# Altium footprint library a3.PcbLib: 56 footprints (part 3 of 4)
Each footprint in its own frame and in the unit in brackets; x right, y up, seen from the top. Pads: shape width x height; smd on the part's side, far side on the other; paste and mask are expansions set on the pad; w line width, h text height; cw(c..) or ccw(c..) is an arc to the next point about the centre after c.
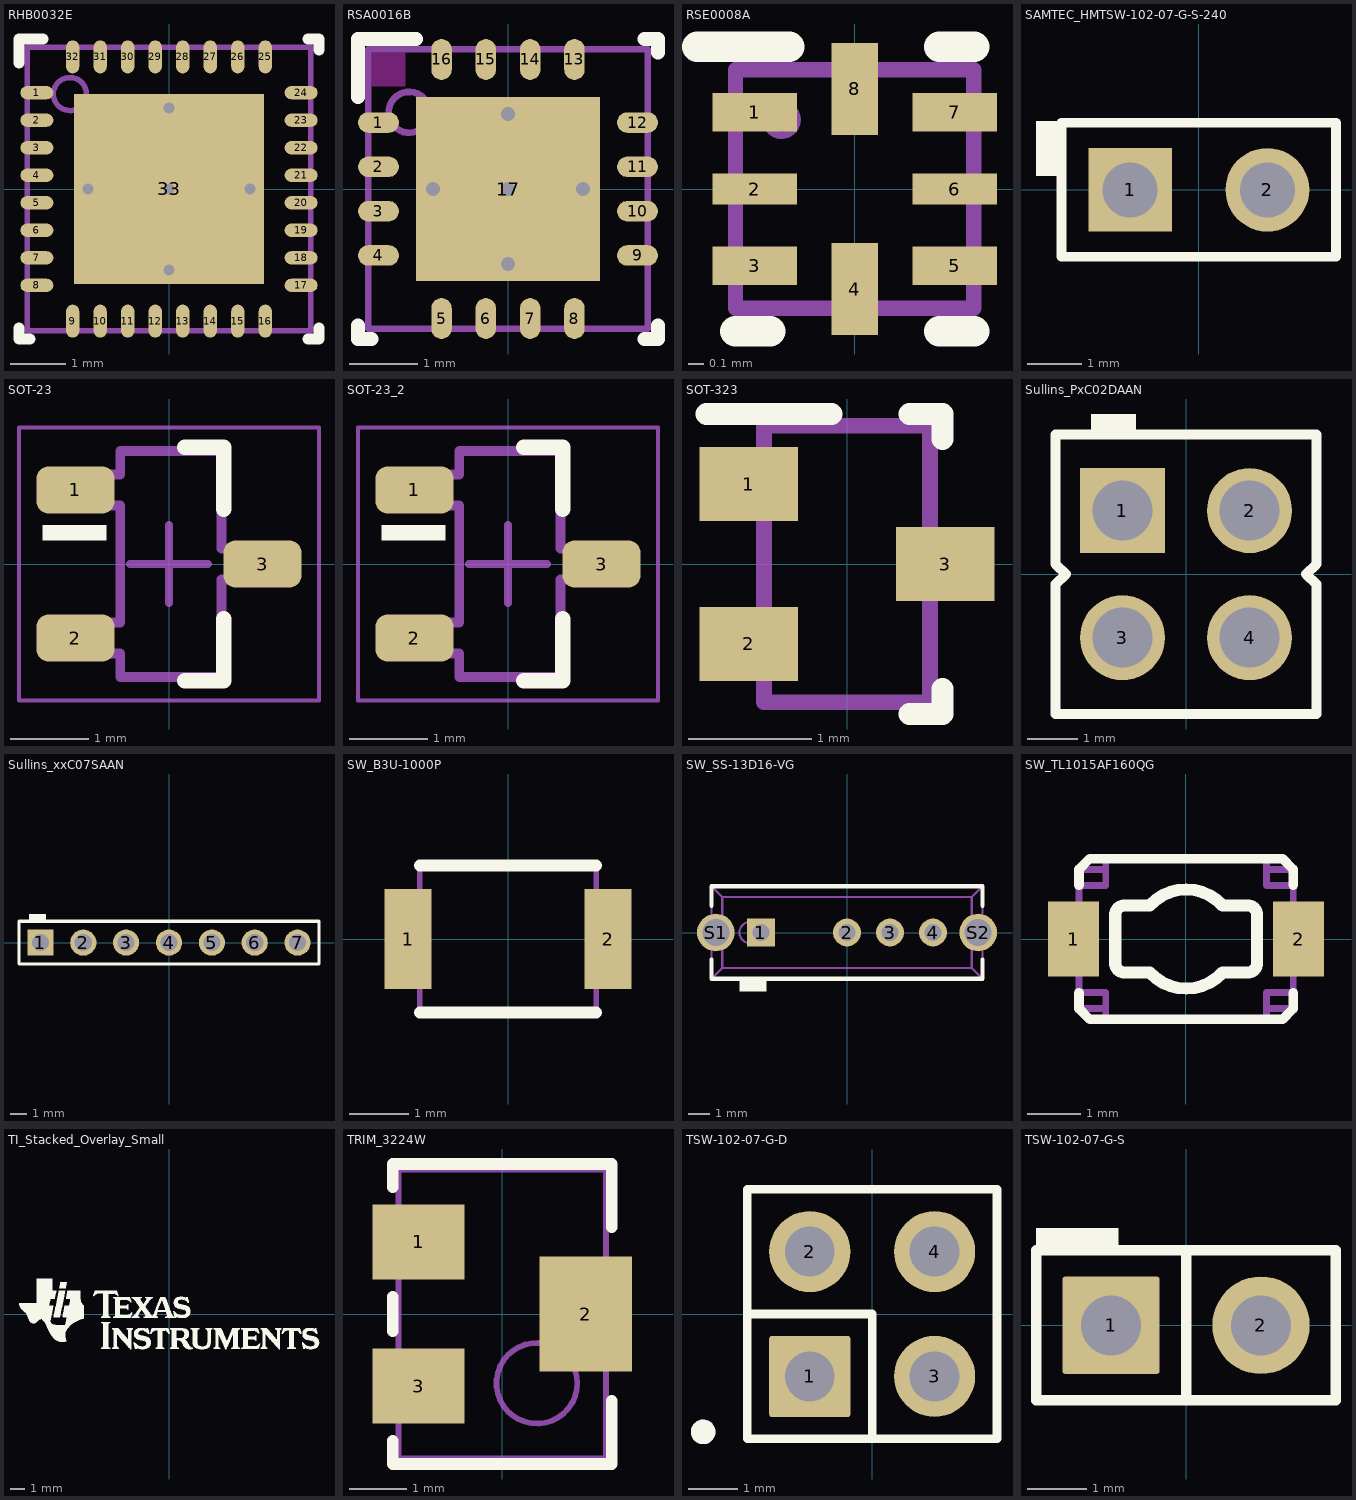
[diagram p2: the footprints below, top view; thin cyan lines are the x and y axes]

## RHB0032E [mm] "QFN, 32-Leads, Body 5x5mm, Pitch 0.5mm, Thermal Pad 3.45x3.45mm, TI Recommended"
height 1
pads (33):
  oval 0.6x0.24 smd: 1(-2.4,1.75) 2(-2.4,1.25) 3(-2.4,0.75) 4(-2.4,0.25) 5(-2.4,-0.25) 6(-2.4,-0.75) 7(-2.4,-1.25) 8(-2.4,-1.75) 17(2.4,-1.75) 18(2.4,-1.25) 19(2.4,-0.75) 20(2.4,-0.25) 21(2.4,0.25) 22(2.4,0.75) 23(2.4,1.25) 24(2.4,1.75)
  oval 0.24x0.6 smd: 9(-1.75,-2.4) 10(-1.25,-2.4) 11(-0.75,-2.4) 12(-0.25,-2.4) 13(0.25,-2.4) 14(0.75,-2.4) 15(1.25,-2.4) 16(1.75,-2.4) 25(1.75,2.4) 26(1.25,2.4) 27(0.75,2.4) 28(0.25,2.4) 29(-0.25,2.4) 30(-0.75,2.4) 31(-1.25,2.4) 32(-1.75,2.4)
  rect 3.45x3.45 smd paste-1.725: 33(0,0)
via 0,-1.475 diameter 0.5 hole 0.2
via 1.475,0 diameter 0.5 hole 0.2
via 0,0 diameter 0.5 hole 0.2
via -1.475,0 diameter 0.5 hole 0.2
via 0,1.475 diameter 0.5 hole 0.2
Top Overlay:
  lines w0.2: -2.725,-2.525 -2.725,-2.725 -2.525,-2.725 ; -2.725,2.29 -2.725,2.725 -2.29,2.725 ; 2.525,-2.725 2.725,-2.725 2.725,-2.525 ; 2.525,2.725 2.725,2.725 2.725,2.525
Top Paste:
  rectangle: 0.1,0.1 1.586,1.586
  region: -0.1,1.586 -1.586,1.586 -1.586,0.1 -0.1,0.1
  region: -0.1,-0.1 -1.586,-0.1 -1.586,-1.586 -0.1,-1.586
  rectangle: 0.1,-1.586 1.586,-0.1
Mechanical 5:
  circle w0.1: c-1.8,1.725 r0.3
  lines w0.1: -2.575,-2.575 2.575,-2.575 2.575,2.575 -2.575,2.575 -2.575,-2.575
  text ".Designator" at 0.635,0.381 h0.64
3D body: height 1, standoff 0, extent -2.575,-2.575 2.575,2.575
3D body: height 1.01, standoff 0.5, extent -2.099,1.426 -1.501,2.024

## RSA0016B [mm] "QFN, 16-Leads, Body 4x4mm, Pitch 0.65mm, Thermal Pad 2.7x2.7mm, TI Recommended"
height 1
pads (17):
  oval 0.6x0.3 smd: 1(-1.9,0.975) 2(-1.9,0.325) 3(-1.9,-0.325) 4(-1.9,-0.975) 9(1.9,-0.975) 10(1.9,-0.325) 11(1.9,0.325) 12(1.9,0.975)
  oval 0.3x0.6 smd: 5(-0.975,-1.9) 6(-0.325,-1.9) 7(0.325,-1.9) 8(0.975,-1.9) 13(0.975,1.9) 14(0.325,1.9) 15(-0.325,1.9) 16(-0.975,1.9)
  rect 2.7x2.7 smd paste-1.35: 17(0,0)
via 0,-1.1 diameter 0.5 hole 0.2
via 1.1,0 diameter 0.5 hole 0.2
via 0,0 diameter 0.5 hole 0.2
via -1.1,0 diameter 0.5 hole 0.2
via 0,1.1 diameter 0.5 hole 0.2
Top Layer keep-out:
  rectangle: -2,1.5 -1.5,2
Top Overlay:
  lines w0.2: -2.2,-2 -2.2,-2.2 -2,-2.2 ; -2.2,1.35 -2.2,2.2 -1.35,2.2 ; 2,-2.2 2.2,-2.2 2.2,-2 ; 2,2.2 2.2,2.2 2.2,2
Top Paste:
  rectangle: 0.1,0.1 1.288,1.288
  region: -0.1,1.288 -1.288,1.288 -1.288,0.1 -0.1,0.1
  region: -0.1,-0.1 -1.288,-0.1 -1.288,-1.288 -0.1,-1.288
  rectangle: 0.1,-1.288 1.288,-0.1
Mechanical 5:
  circle w0.1: c-1.45,1.125 r0.3
  lines w0.1: -2.05,-2.05 2.05,-2.05 2.05,2.05 -2.05,2.05 -2.05,-2.05
  text ".Designator" at -1.854,-0.508 h1.02
3D body: height 1, standoff 0, extent -2.05,-2.05 2.05,2.05
3D body: height 1.01, standoff 0.9, extent -1.749,0.826 -1.151,1.424

## RSE0008A [mm] "QFN, 8-Leads, Body 1.5x1.5mm, Pitch 0.5mm, TI Recommended"
height 0.6
pads (8):
  rect 0.55x0.25 smd: 1(-0.65,0.5) 3(-0.65,-0.5) 5(0.65,-0.5) 7(0.65,0.5)
  rect 0.55x0.2 smd: 2(-0.65,0) 6(0.65,0)
  rect 0.3x0.6 smd: 4(0,-0.65) 8(0,0.65)
Top Overlay:
  lines w0.2: -1.025,0.925 -0.425,0.925 ; -0.775,-0.925 -0.55,-0.925 ; 0.55,-0.925 0.775,-0.925 ; 0.55,0.925 0.775,0.925
Mechanical 5:
  circle w0.05: c-0.475,0.45 r0.1
  lines w0.1: -0.775,-0.775 -0.775,0.775 0.775,0.775 0.775,-0.775 -0.775,-0.775
  text ".Designator" at -0.597,-0.254 h0.38
3D body: height 0.6, standoff 0, extent -0.775,-0.775 0.775,0.775
3D body: height 0.61, standoff 0.5, extent -0.574,0.351 -0.376,0.549

## SAMTEC_HMTSW-102-07-G-S-240 [mm] "Header, 2.54mm, 2x1, TH"
height 8.58
pads (2):
  rect 1.55x1.55 hole 1.02: 1(-1.27,0)
  round 1.55 hole 1.02: 2(1.27,0)
Top Overlay:
  region: -2.54,1.27 -3.012,1.27 -3.012,0.254 -2.54,0.254
  lines w0.178: -2.54,-1.24 -2.54,1.24 2.54,1.24 2.54,-1.24 -2.54,-1.24
Mechanical 5:
  lines w0.127: -2.54,-1.24 -2.54,1.24 2.54,1.24 2.54,-1.24 -2.54,-1.24
  text ".Designator" at -1.524,-0.508 h1.02
3D body "Samtec-HMTSW-102-07-G-S-240.stp": height 8.64, standoff -2.29, extent -2.54,-1.27 2.54,1.27

## SOT-23 [mm] "SOT23, 3-Leads, Body 2.9x1.3mm, Pitch 0.95mm, Lead Span 2.5mm, IPC Medium Density"
height 1.1
pads (3):
  rrect50% 1x0.6 smd: 1(-1.2,0.95) 2(-1.2,-0.95) 3(1.2,0)
Top Overlay:
  rectangle: -1.625,0.3 -0.8,0.5
  lines w0.2: 0.2,-1.5 0.7,-1.5 0.7,-0.7 ; 0.2,1.5 0.7,1.5 0.7,0.7
Mechanical 5:
  lines w0.127: -1.16,-1.15 -0.625,-1.15 -0.625,-1.45 0.675,-1.45 0.675,-0.2 1.21,-0.2 1.21,0.2 0.675,0.2 0.675,1.45 -0.625,1.45 -0.625,1.15 -1.16,1.15 -1.16,0.75 -0.625,0.75 -0.625,-0.75 -1.16,-0.75 -1.16,-1.15
  text ".Designator" at 0.292,-0.508 h0.38
Mechanical 15:
  lines w0.05: -1.925,-1.75 -1.925,1.75 1.925,1.75 1.925,-1.75 -1.925,-1.75
  lines w0.1: -0.5,0 0.5,0 ; 0,-0.5 0,0.5
3D body "SW3dPS-sot-3p290x130ll237h100.STEP": height 1, standoff 0, extent -1.16,-1.45 1.21,1.45

## SOT-23_2 [mm]
pads (3):
  rrect50% 1x0.6 smd: 1(-1.2,0.95) 2(-1.2,-0.95) 3(1.2,0)
Top Overlay:
  rectangle: -1.625,0.3 -0.8,0.5
  lines w0.2: 0.2,-1.5 0.7,-1.5 0.7,-0.7 ; 0.2,1.5 0.7,1.5 0.7,0.7
Mechanical 5:
  lines w0.127: -1.16,-1.15 -0.625,-1.15 -0.625,-1.45 0.675,-1.45 0.675,-0.2 1.21,-0.2 1.21,0.2 0.675,0.2 0.675,1.45 -0.625,1.45 -0.625,1.15 -1.16,1.15 -1.16,0.75 -0.625,0.75 -0.625,-0.75 -1.16,-0.75 -1.16,-1.15
  text ".Designator" at 0.254,-0.978 h0.64
Mechanical 15:
  lines w0.05: -1.925,-1.75 -1.925,1.75 1.925,1.75 1.925,-1.75 -1.925,-1.75
  lines w0.1: -0.5,0 0.5,0 ; 0,-0.5 0,0.5
3D body "SW3dPS-sot-3p290x130ll237h100.STEP": height 1, standoff 0, extent -1.16,-1.45 1.21,1.45

## SOT-323 [mm] "Zetex recommended land pattern.  March 2007"
height 1.1
pads (3):
  rect 0.8x0.6 smd: 1(-0.8,0.65) 2(-0.8,-0.65) 3(0.8,0)
Top Overlay:
  lines w0.178: -1.143,1.219 -0.127,1.219 ; 0.508,-1.219 0.775,-1.219 0.775,-1.016 ; 0.508,1.219 0.775,1.219 0.775,1.016
Mechanical 5:
  lines w0.127: -1.125,-0.8 -0.975,-0.8 -0.935,-0.8 -0.884,-0.8 -0.725,-0.8 -0.675,-0.8 -0.675,-0.5 -0.725,-0.5 -0.884,-0.5 -0.935,-0.5 -0.975,-0.5 -1.125,-0.5 -1.125,-0.8 ; -1.125,0.5 -0.975,0.5 -0.935,0.5 -0.884,0.5 -0.725,0.5 -0.675,0.5 -0.675,0.8 -0.725,0.8 -0.884,0.8 -0.935,0.8 -0.975,0.8 -1.125,0.8 -1.125,0.5 ; -0.675,-1.125 0.675,-1.125 0.675,1.125 -0.675,1.125 -0.675,-1.125 ; 0.675,-0.15 0.675,0.15 0.725,0.15 0.884,0.15 0.935,0.15 0.975,0.15 1.125,0.15 1.125,-0.15 0.975,-0.15 0.935,-0.15 0.884,-0.15 0.725,-0.15 0.675,-0.15
  text ".Designator" at 0.165,-0.508 h0.38
3D body "SC-70.stp": height 1.13, standoff 0.02, extent -1.125,-1.125 1.125,1.125

## Sullins_PxC02DAAN [mm] "Header, 2.54mm, 2x2, TH"
height 8.58
pads (4):
  rect 1.7x1.7 hole 1.2: 1(-1.27,1.27)
  round 1.7 hole 1.2: 2(1.27,1.27) 3(-1.27,-1.27) 4(1.27,-1.27)
Top Overlay:
  rectangle: -1.9,2.795 -1,3.2
  lines w0.2: -2.605,-2.795 2.605,-2.795 2.605,-0.2 2.4,0 2.605,0.2 2.605,2.795 -2.605,2.795 -2.605,0.2 -2.4,0 -2.605,-0.2 -2.605,-2.795
Mechanical 5:
  lines w0.1: -2.605,-2.795 -2.605,-0.2 -2.4,0 -2.605,0.2 -2.605,2.795 2.605,2.795 2.605,0.2 2.4,0 2.605,-0.2 2.605,-2.795 -2.605,-2.795
  text ".Designator" at -1.524,-0.508 h1.02
3D body: height 8.58, standoff -2.5, extent -1.59,-1.59 -0.95,-0.95
3D body: height 8.58, standoff -2.5, extent 0.95,-1.59 1.59,-0.95
3D body: height 8.58, standoff -2.5, extent 0.95,0.95 1.59,1.59
3D body: height 8.58, standoff -2.5, extent -1.59,0.95 -0.95,1.59
3D body: height 2.54, standoff 0, extent -2.606,-2.796 2.606,2.796

## Sullins_xxC07SAAN [mm] "Header, 2.54 mm, 7x1, TH"
height 8.71
pads (7):
  rect 1.55x1.55 hole 1.016: 1(-7.62,0)
  round 1.55 hole 1.016: 2(-5.08,0) 3(-2.54,0) 4(0,0) 5(2.54,0) 6(5.08,0) 7(7.62,0)
Top Overlay:
  rectangle: -8.3,1.27 -7.3,1.7
  lines w0.2: -8.89,-1.27 -8.89,1.27 8.89,1.27 8.89,-1.27 -8.89,-1.27
Mechanical 5:
  lines w0.1: -8.89,-1.27 8.89,-1.27 8.89,1.27 -8.89,1.27 -8.89,-1.27
  text ".Designator" at -1.524,-0.508 h1.02
3D body "PBC07SAAN.stp": height 8.38, standoff -3.05, extent -8.89,-1.27 8.89,1.27

## SW_B3U-1000P [mm] "OMRON"
height 1.75
pads (2):
  rect 0.8x1.7 smd: 1(-1.7,0) 2(1.7,0)
Top Overlay:
  lines w0.2: -1.5,-1.25 1.5,-1.25 ; -1.5,1.25 1.5,1.25
Mechanical 5:
  lines w0.1: -1.5,-0.7 -2,-0.7 -2,0.7 -1.5,0.7 ; 1.5,-0.7 2,-0.7 2,0.7 1.5,0.7 ; -1.5,-1.25 1.5,-1.25 1.5,1.25 -1.5,1.25 -1.5,-1.25
  text ".Designator" at 2.921,2.413 h0.64
3D body: height 1.35, standoff 0, extent -1.5,-1.25 1.5,1.25
3D body: height 1.75, standoff 0.01, extent -0.749,-0.749 0.749,0.749

## SW_SS-13D16-VG [mm] "TH, 4-Leads, Body 12.6x4.3mm, Pitch 2mm"
height 9.3
pads (6):
  rect 1.3x1.3 hole 0.8: 1(-4,0)
  round 1.3 hole 0.8: 2(0,0) 3(2,0) 4(4,0)
  round 1.75 hole 1.25: S1(-6.1,0) S2(6.1,0)
Top Overlay:
  rectangle: -5,-2.75 -3.75,-2.15
  lines w0.2: -6.3,-1.25 -6.3,-2.15 6.3,-2.15 6.3,-1.25 ; -6.3,1.25 -6.3,2.15 6.3,2.15 6.3,1.25
Mechanical 5:
  circle w0.1: c-4.5,0 r0.5
  lines w0.1: -6.3,-2.15 6.3,-2.15 ; -6.3,-2.15 -6.3,2.15 ; -6.3,-2.15 -5.8,-1.65 ; -6.3,2.15 6.3,2.15 ; -6.3,2.15 -5.8,1.65 ; -5.8,-1.65 -5.8,1.65 ; -5.8,-1.65 5.8,-1.65 ; -5.8,1.65 5.8,1.65 ; 5.8,-1.65 5.8,1.65 ; 5.8,-1.65 6.3,-2.15 ; 5.8,1.65 6.3,2.15 ; 6.3,-2.15 6.3,2.15
  text ".Designator" at -0.762,-0.254 h0.64
3D body "SW_SS-13D16-VG.stp": height 8.7, standoff -2.8, extent -6.3,-2.15 6.3,2.15

## SW_TL1015AF160QG [mm] "E-Switch"
height 2.1
pads (2):
  rect 0.95x1.4 smd: 1(-2.1,0) 2(2.1,0)
Top Overlay:
  lines w0.178: -1.997,-1 -1.997,-1.3 -1.797,-1.5 -1.497,-1.5 1.503,-1.5 1.803,-1.5 2.003,-1.3 2.003,-1 ; -1.997,1 -1.997,1.3 -1.797,1.5 -1.497,1.5 1.503,1.5 1.803,1.5 2.003,1.3 2.003,1 ; -1.347,-0.45 ccw(c-1.147,-0.45) -1.147,-0.65 -0.69,-0.65 ccw(c0.003,0) 0.696,-0.65 1.153,-0.65 ccw(c1.153,-0.45) 1.353,-0.45 1.353,0.45 ccw(c1.153,0.45) 1.153,0.65 0.696,0.65 ccw(c0.003,0) -0.69,0.65 -1.147,0.65 ccw(c-1.147,0.45) -1.347,0.45 -1.347,-0.45 ; -1.297,-0.45 ccw(c-1.147,-0.45) -1.147,-0.6 -0.668,-0.6 ccw(c0.003,0) 0.674,-0.6 1.153,-0.6 ccw(c1.153,-0.45) 1.303,-0.45 1.303,0.45 ccw(c1.153,0.45) 1.153,0.6 0.674,0.6 ccw(c0.003,0) -0.668,0.6 -1.147,0.6 ccw(c-1.147,0.45) -1.297,0.45 -1.297,-0.45
Mechanical 5:
  lines w0.127: -1.997,-0.5 -2.013,-0.5 -2.102,-0.5 ; -1.997,0.5 -2.013,0.5 -2.102,0.5 ; 2.003,-0.5 2.019,-0.5 2.107,-0.5 ; 2.003,0.5 2.019,0.5 2.107,0.5 ; -2.102,-0.5 -2.3,-0.5 -2.3,0.5 -2.102,0.5 ; -2.102,-0.5 -2.102,0.5 ; -1.997,-1.3 -1.997,-1 ; -1.997,-1.3 -1.797,-1.5 -1.497,-1.5 ; -1.997,-1.3 -1.497,-1.3 ; -1.997,-1 -1.497,-1 ; -1.997,-1 -1.497,-1 ; -1.997,-1 -1.997,1 ; -1.997,1 -1.497,1 ; -1.997,1 -1.997,1.3 ; -1.997,1 -1.497,1 ; -1.997,1.3 -1.497,1.3 ; -1.997,1.3 -1.797,1.5 -1.497,1.5 ; -1.497,-1.5 1.503,-1.5 ; -1.497,-1.5 -1.497,-1.3 ; -1.497,-1.3 -1.497,-1 ; -1.497,-1.3 -1.497,-1 ; -1.497,1 -1.497,1.3 ; -1.497,1 -1.497,1.3 ; -1.497,1.3 -1.497,1.5 ; -1.497,1.5 1.503,1.5 ; 1.503,-1.5 1.803,-1.5 2.003,-1.3 ; 1.503,-1.5 1.503,-1.3 ; 1.503,-1.3 2.003,-1.3 ; 1.503,-1.3 1.503,-1 ; 1.503,-1.3 1.503,-1 ; 1.503,-1 2.003,-1 ; 1.503,-1 2.003,-1 ; 1.503,1 1.503,1.3 ; 1.503,1 2.003,1 ; 1.503,1 1.503,1.3 ; 1.503,1 2.003,1 ; 1.503,1.3 2.003,1.3 ; 1.503,1.3 1.503,1.5 ; 1.503,1.5 1.803,1.5 2.003,1.3 ; 2.003,-1.3 2.003,-1 ; 2.003,-1 2.003,1 ; 2.003,1 2.003,1.3 ; 2.107,-0.5 2.107,0.5 ; 2.107,-0.5 2.306,-0.5 2.306,0.5 2.107,0.5 ; -1.347,-0.45 ccw(c-1.147,-0.45) -1.147,-0.65 -0.69,-0.65 ccw(c0.003,0) 0.696,-0.65 1.153,-0.65 ccw(c1.153,-0.45) 1.353,-0.45 1.353,0.45 ccw(c1.153,0.45) 1.153,0.65 0.696,0.65 ccw(c0.003,0) -0.69,0.65 -1.147,0.65 ccw(c-1.147,0.45) -1.347,0.45 -1.347,-0.45 ; -1.297,-0.45 ccw(c-1.147,-0.45) -1.147,-0.6 -0.668,-0.6 ccw(c0.003,0) 0.674,-0.6 1.153,-0.6 ccw(c1.153,-0.45) 1.303,-0.45 1.303,0.45 ccw(c1.153,0.45) 1.153,0.6 0.674,0.6 ccw(c0.003,0) -0.668,0.6 -1.147,0.6 ccw(c-1.147,0.45) -1.297,0.45 -1.297,-0.45
  text ".Designator" at -1.905,1.905 h0.51
3D body "ESwitch_TL1015AF160QG.stp": height 2, standoff 0, extent -2.302,-1.5 2.303,1.5

## TI_Stacked_Overlay_Small [mm]
Top Overlay:
  drawing of 18 lines, arcs and shapes, not listed

## TRIM_3224W [mm] "BOURNS"
height 5.3
pads (3):
  rect 1.6x1.3 smd: 1(-1.45,1.25) 3(-1.45,-1.25)
  rect 1.6x2 smd: 2(1.45,0)
Top Overlay:
  lines w0.2: -1.9,-2.2 -1.9,-2.6 1.9,-2.6 1.9,-1.5 ; -1.9,-0.3 -1.9,0.3 ; -1.9,2.2 -1.9,2.6 1.9,2.6 1.9,1.5
Mechanical 5:
  circle w0.1: c0.6,-1.2 r0.7
  lines w0.1: -1.8,-2.5 1.8,-2.5 1.8,2.5 -1.8,2.5 -1.8,-2.5
  text ".Designator" at -0.762,1.016 h0.64
3D body: height 5.3, standoff 0, extent -1.799,-2.499 1.799,2.499
3D body: height 5.31, standoff 5, extent -0.099,-1.899 1.299,-0.501

## TSW-102-07-G-D [mm] "Samtec 100mil, 2x2, 230 mil above insulator"
height 8.382
pads (4):
  rrect6% 1.65x1.65 hole 1.016: 1(-1.27,-1.27)
  round 1.65 hole 1.016: 2(-1.27,1.27) 3(1.27,-1.27) 4(1.27,1.27)
Top Overlay:
  circle w0.25: c-3.44,-2.4 r0.125
  lines w0.178: -2.54,0 0,0 0,-2.54 ; -2.54,-2.54 2.54,-2.54 2.54,2.54 -2.54,2.54 -2.54,-2.54
Mechanical 5:
  circle w0.25: c-3.44,-2.4 r0.125
  lines w0.127: -2.54,-2.54 -2.54,2.54 2.54,2.54 2.54,-2.54 -2.54,-2.54
  text ".Designator" at 1.778,0.635 h0.64
3D body "SamtecTSW-07_2x2.stp": height 8.38, standoff -2.54, extent -2.54,-2.54 2.54,2.54

## TSW-102-07-G-S [mm] "Samtec 100mil, 1x2, 230 mil above insulator"
height 8.382
pads (2):
  rrect6% 1.65x1.65 hole 1.016: 1(-1.27,0)
  round 1.65 hole 1.016: 2(1.27,0)
Top Overlay:
  rectangle: -2.54,1.27 -1.143,1.651
  lines w0.178: 0,-1.27 0,1.27 ; -2.54,-1.27 2.54,-1.27 2.54,1.27 -2.54,1.27 -2.54,-1.27
Mechanical 5:
  lines w0.127: -2.54,-1.27 -2.54,1.27 2.54,1.27 2.54,-1.27 -2.54,-1.27
  text ".Designator" at -1.524,-0.508 h1.02
3D body "SamtecTSW-07_2x1.stp": height 8.38, standoff -2.54, extent -2.54,-1.27 2.54,1.27